# Altium schematic symbol library 1206L150THWR.SchLib: 1 symbol
Pins are listed as number, name and electrical type; pins without a type are passive.

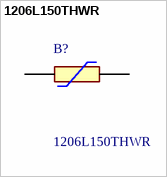
[diagram p0: symbol 1206L150THWR]

## 1206L150THWR
designator B?
Littelfuse Surface Mount Fuse, 8V dc; Geometry.Height: 1mm; Farnell Part Number: *; Farnell Price/Stock: *; Manufacturer_Name: LITTELFUSE; Manufacturer_Part_Number: 1206L150THWR; Datasheet Link: http://www.littelfuse.com/~/media/electronics/datasheets/resettable_ptcs/littelfuse_ptc_1206l_datasheet.pdf.pdf
footprint FUSC3216X100N
pins: 1, 2